# Altium schematic symbol library kmilo17pet-NSC_Switcher.SchLib: 2226 symbols (part 8 of 59)
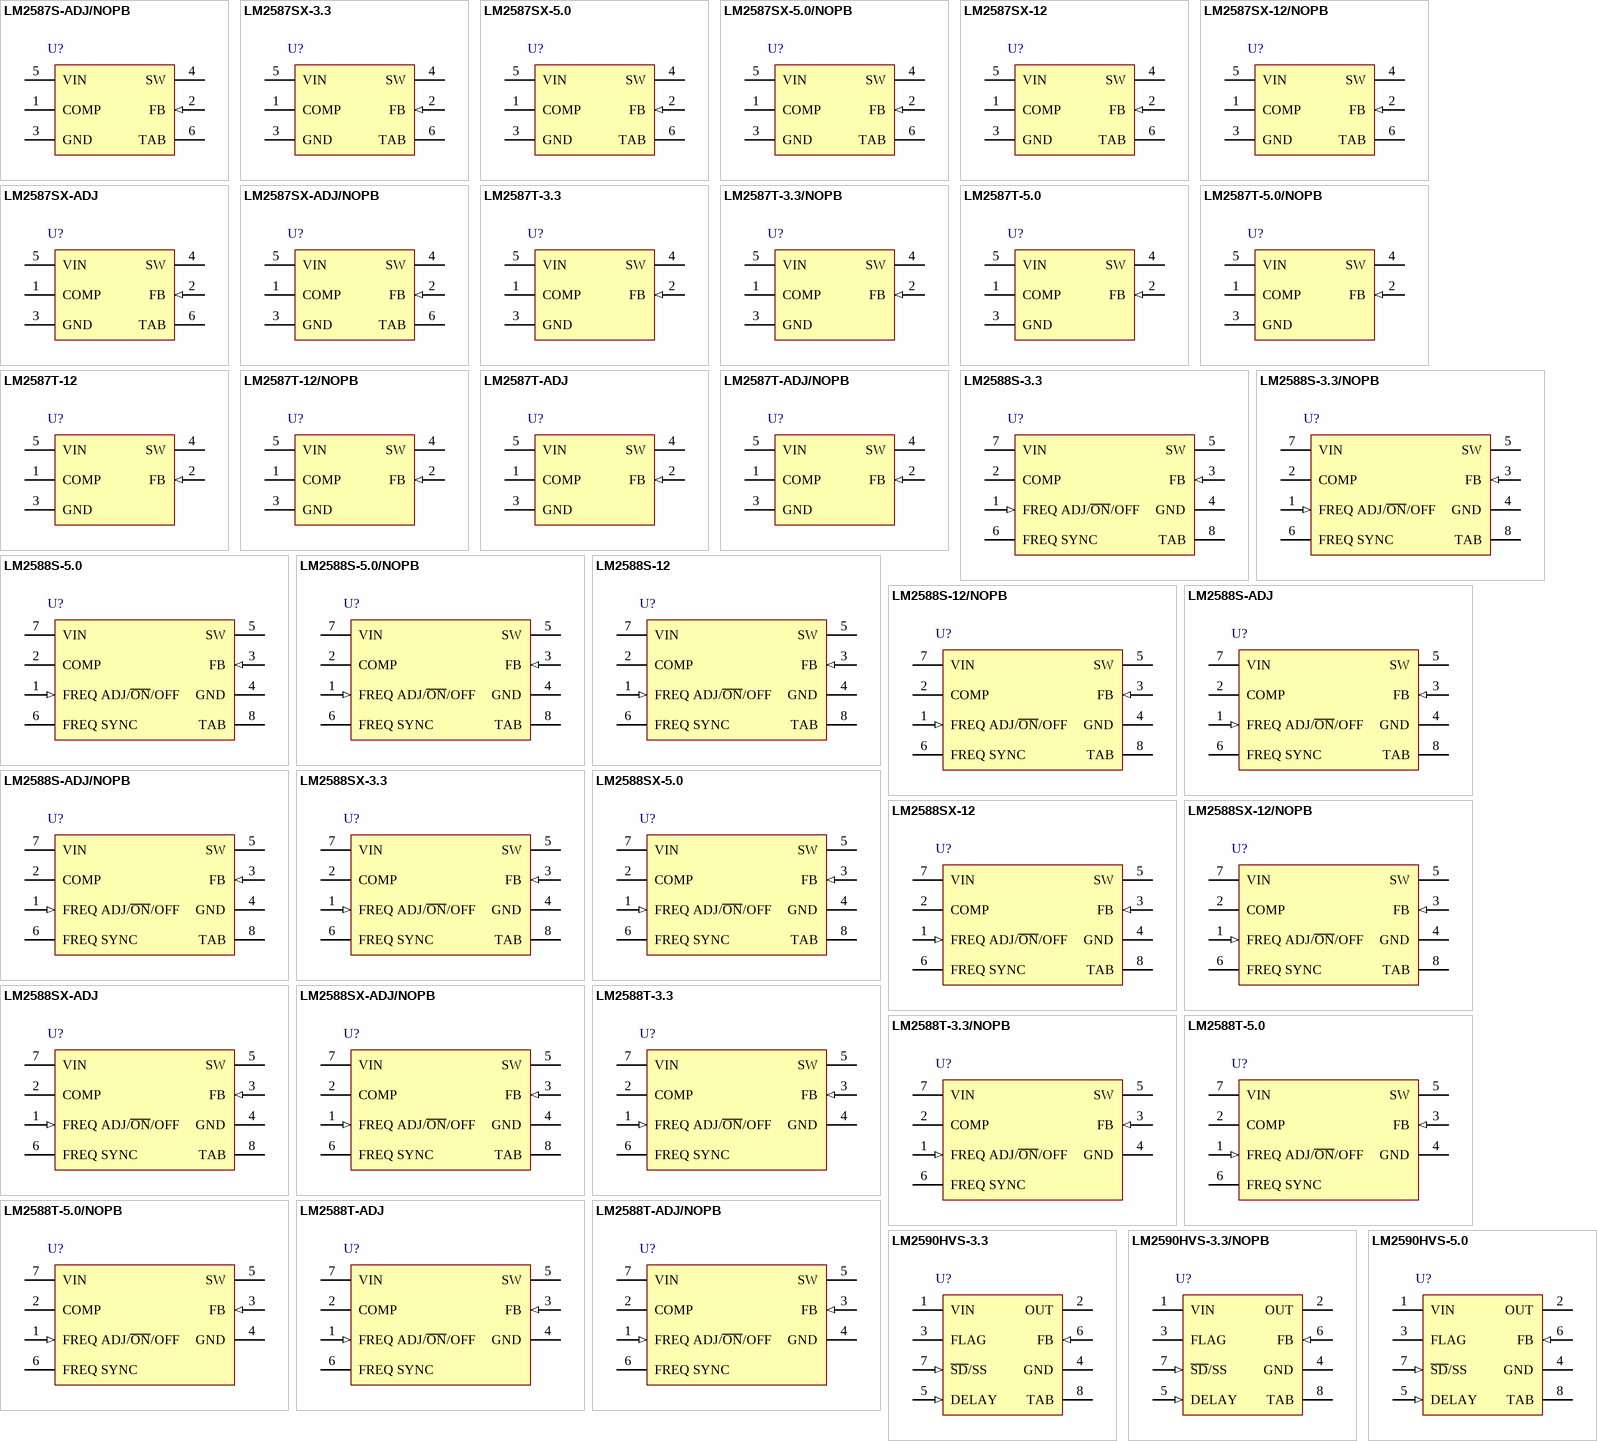
[diagram p76: symbols LM2587S-ADJ/NOPB to LM2590HVS-5.0]

## LM2587SX-12
designator U?
5A Flyback Regulator, 5-pin TO-263; PartNumber: LM2587SX-12; Manufacturer: National Semiconductor; PackageTopMarking: NSUZXYTTE#*LM2587S*-12 P+; PowerWise: N; CompType: Switcher; High-Reliability: Y; DatasheetVersion: Feb-2010; PackageVersion: revD, Apr-2005; PackageReference: TS5B; PackageDescription: TO-263, Molded, .400 x .390 x .180in, 5 Lead, .067in Pitch, Surface Mount; RoHS: N; PinCount: 5; Code_JEDEC: MO-169-AB; ComponentLink1Description: Manufacturer URL; ComponentLink1URL: http://www.national.com/; ComponentLink2Description: LM2587 Datasheet; ComponentLink2URL: http://www.national.com/ds/LM/LM2587.pdf; ComponentLink3Description: LM2587 Web Page; ComponentLink3URL: http://www.national.com/pf/LM/LM2587.html; ComponentLink4Description: TS5B Package Page; ComponentLink4URL: http://www.national.com/packaging/folders/ts5b.html
footprint TS5B_N (D2-PAK, 6-Leads, Body 8.6x10.2mm, Pitch 1.7mm, Lead Span 14.1mm, IPC Medium Density)
footprint TS5B_L (D2-PAK, 6-Leads, Body 8.6x10.2mm, Pitch 1.7mm, Lead Span 14.1mm, IPC High Density)
footprint TS5B_M (D2-PAK, 6-Leads, Body 8.6x10.2mm, Pitch 1.7mm, Lead Span 14.1mm, IPC Low Density)
pins: 1 COMP, 2 FB (in), 3 GND (power), 4 SW (power), 5 VIN (power), 6 TAB

## LM2587SX-12/NOPB
designator U?
5A Flyback Regulator, 5-pin TO-263, Pb-Free; PartNumber: LM2587SX-12/NOPB; Manufacturer: National Semiconductor; PackageTopMarking: NSUZXYTTE#*LM2587S*-12 P+; PowerWise: N; CompType: Switcher; High-Reliability: Y; DatasheetVersion: Feb-2010; PackageVersion: revD, Apr-2005; PackageReference: TS5B; PackageDescription: TO-263, Molded, .400 x .390 x .180in, 5 Lead, .067in Pitch, Surface Mount; RoHS: Y; PinCount: 5; Code_JEDEC: MO-169-AB; ComponentLink1Description: Manufacturer URL; ComponentLink1URL: http://www.national.com/; ComponentLink2Description: LM2587 Datasheet; ComponentLink2URL: http://www.national.com/ds/LM/LM2587.pdf; ComponentLink3Description: LM2587 Web Page; ComponentLink3URL: http://www.national.com/pf/LM/LM2587.html; ComponentLink4Description: TS5B Package Page; ComponentLink4URL: http://www.national.com/packaging/folders/ts5b.html
footprint TS5B_N (D2-PAK, 6-Leads, Body 8.6x10.2mm, Pitch 1.7mm, Lead Span 14.1mm, IPC Medium Density)
footprint TS5B_L (D2-PAK, 6-Leads, Body 8.6x10.2mm, Pitch 1.7mm, Lead Span 14.1mm, IPC High Density)
footprint TS5B_M (D2-PAK, 6-Leads, Body 8.6x10.2mm, Pitch 1.7mm, Lead Span 14.1mm, IPC Low Density)
pins: 1 COMP, 2 FB (in), 3 GND (power), 4 SW (power), 5 VIN (power), 6 TAB

## LM2587SX-ADJ
designator U?
5A Flyback Regulator, 5-pin TO-263; PartNumber: LM2587SX-ADJ; Manufacturer: National Semiconductor; PackageTopMarking: NSUZXYTTE#*LM2587S*-ADJ P+; PowerWise: N; CompType: Switcher; High-Reliability: Y; DatasheetVersion: Feb-2010; PackageVersion: revD, Apr-2005; PackageReference: TS5B; PackageDescription: TO-263, Molded, .400 x .390 x .180in, 5 Lead, .067in Pitch, Surface Mount; RoHS: N; PinCount: 5; Code_JEDEC: MO-169-AB; ComponentLink1Description: Manufacturer URL; ComponentLink1URL: http://www.national.com/; ComponentLink2Description: LM2587 Datasheet; ComponentLink2URL: http://www.national.com/ds/LM/LM2587.pdf; ComponentLink3Description: LM2587 Web Page; ComponentLink3URL: http://www.national.com/pf/LM/LM2587.html; ComponentLink4Description: TS5B Package Page; ComponentLink4URL: http://www.national.com/packaging/folders/ts5b.html
footprint TS5B_N (D2-PAK, 6-Leads, Body 8.6x10.2mm, Pitch 1.7mm, Lead Span 14.1mm, IPC Medium Density)
footprint TS5B_L (D2-PAK, 6-Leads, Body 8.6x10.2mm, Pitch 1.7mm, Lead Span 14.1mm, IPC High Density)
footprint TS5B_M (D2-PAK, 6-Leads, Body 8.6x10.2mm, Pitch 1.7mm, Lead Span 14.1mm, IPC Low Density)
pins: 1 COMP, 2 FB (in), 3 GND (power), 4 SW (power), 5 VIN (power), 6 TAB

## LM2587SX-ADJ/NOPB
designator U?
5A Flyback Regulator, 5-pin TO-263, Pb-Free; PartNumber: LM2587SX-ADJ/NOPB; Manufacturer: National Semiconductor; PackageTopMarking: NSUZXYTTE#*LM2587S*-ADJ P+; PowerWise: N; CompType: Switcher; High-Reliability: Y; DatasheetVersion: Feb-2010; PackageVersion: revD, Apr-2005; PackageReference: TS5B; PackageDescription: TO-263, Molded, .400 x .390 x .180in, 5 Lead, .067in Pitch, Surface Mount; RoHS: Y; PinCount: 5; Code_JEDEC: MO-169-AB; ComponentLink1Description: Manufacturer URL; ComponentLink1URL: http://www.national.com/; ComponentLink2Description: LM2587 Datasheet; ComponentLink2URL: http://www.national.com/ds/LM/LM2587.pdf; ComponentLink3Description: LM2587 Web Page; ComponentLink3URL: http://www.national.com/pf/LM/LM2587.html; ComponentLink4Description: TS5B Package Page; ComponentLink4URL: http://www.national.com/packaging/folders/ts5b.html
footprint TS5B_N (D2-PAK, 6-Leads, Body 8.6x10.2mm, Pitch 1.7mm, Lead Span 14.1mm, IPC Medium Density)
footprint TS5B_L (D2-PAK, 6-Leads, Body 8.6x10.2mm, Pitch 1.7mm, Lead Span 14.1mm, IPC High Density)
footprint TS5B_M (D2-PAK, 6-Leads, Body 8.6x10.2mm, Pitch 1.7mm, Lead Span 14.1mm, IPC Low Density)
pins: 1 COMP, 2 FB (in), 3 GND (power), 4 SW (power), 5 VIN (power), 6 TAB

## LM2587T-3.3
designator U?
SIMPLE SWITCHER® 5A Flyback Regulator, 5-pin TO-220; PartNumber: LM2587T-3.3; Manufacturer: National Semiconductor; PackageTopMarking: NSUZXYTTE#*LM2587T*-3.3 P+; PowerWise: N; High-Reliability: Y; DatasheetVersion: Feb-2010; PackageVersion: revA, Oct-1989; PackageReference: T05D; PackageDescription: TO-220, Molded, Stagger Bend, 5 Lead; RoHS: N; PinCount: 5; CompType: Switcher; ComponentLink1Description: Manufacturer URL; ComponentLink1URL: http://www.national.com/; ComponentLink2Description: LM2587 Datasheet; ComponentLink2URL: http://www.national.com/ds/LM/LM2587.pdf; ComponentLink3Description: LM2587 Web Page; ComponentLink3URL: http://www.national.com/pf/LM/LM2587.html; ComponentLink4Description: T05D Package Page; ComponentLink4URL: http://www.national.com/packaging/folders/t05d.html
footprint T05D (TO, Thru-Hole, Vertical, Heatsink Mounted; 5 Bent Staggered Leads; Body 10.3x8.6x4.6mm, Pitch 1.7 mm)
pins: 1 COMP, 2 FB (in), 3 GND (power), 4 SW (power), 5 VIN (power)

## LM2587T-3.3/NOPB
designator U?
5A Flyback Regulator, 5-pin TO-220, Pb-Free; PartNumber: LM2587T-3.3/NOPB; Manufacturer: National Semiconductor; PackageTopMarking: NSUZXYTTE#*LM2587T*-3.3 P+; PowerWise: N; CompType: Switcher; High-Reliability: Y; DatasheetVersion: Feb-2010; PackageVersion: revA, Oct-1989; PackageReference: T05D; PackageDescription: TO-220, Molded, Stagger Bend, 5 Lead; RoHS: Y; PinCount: 5; ComponentLink1Description: Manufacturer URL; ComponentLink1URL: http://www.national.com/; ComponentLink2Description: LM2587 Datasheet; ComponentLink2URL: http://www.national.com/ds/LM/LM2587.pdf; ComponentLink3Description: LM2587 Web Page; ComponentLink3URL: http://www.national.com/pf/LM/LM2587.html; ComponentLink4Description: T05D Package Page; ComponentLink4URL: http://www.national.com/packaging/folders/t05d.html
footprint T05D (TO, Thru-Hole, Vertical, Heatsink Mounted; 5 Bent Staggered Leads; Body 10.3x8.6x4.6mm, Pitch 1.7 mm)
pins: 1 COMP, 2 FB (in), 3 GND (power), 4 SW (power), 5 VIN (power)

## LM2587T-5.0
designator U?
SIMPLE SWITCHER® 5A Flyback Regulator, 5-pin TO-220; PartNumber: LM2587T-5.0; Manufacturer: National Semiconductor; PackageTopMarking: NSUZXYTTE#*LM2587T*-5.0 P+; PowerWise: N; High-Reliability: Y; DatasheetVersion: Feb-2010; PackageVersion: revA, Oct-1989; PackageReference: T05D; PackageDescription: TO-220, Molded, Stagger Bend, 5 Lead; RoHS: N; PinCount: 5; CompType: Switcher; ComponentLink1Description: Manufacturer URL; ComponentLink1URL: http://www.national.com/; ComponentLink2Description: LM2587 Datasheet; ComponentLink2URL: http://www.national.com/ds/LM/LM2587.pdf; ComponentLink3Description: LM2587 Web Page; ComponentLink3URL: http://www.national.com/pf/LM/LM2587.html; ComponentLink4Description: T05D Package Page; ComponentLink4URL: http://www.national.com/packaging/folders/t05d.html
footprint T05D (TO, Thru-Hole, Vertical, Heatsink Mounted; 5 Bent Staggered Leads; Body 10.3x8.6x4.6mm, Pitch 1.7 mm)
pins: 1 COMP, 2 FB (in), 3 GND (power), 4 SW (power), 5 VIN (power)

## LM2587T-5.0/NOPB
designator U?
5A Flyback Regulator, 5-pin TO-220, Pb-Free; PartNumber: LM2587T-5.0/NOPB; Manufacturer: National Semiconductor; PackageTopMarking: NSUZXYTTE#*LM2587T*-5.0 P+; PowerWise: N; CompType: Switcher; High-Reliability: Y; DatasheetVersion: Feb-2010; PackageVersion: revA, Oct-1989; PackageReference: T05D; PackageDescription: TO-220, Molded, Stagger Bend, 5 Lead; RoHS: Y; PinCount: 5; ComponentLink1Description: Manufacturer URL; ComponentLink1URL: http://www.national.com/; ComponentLink2Description: LM2587 Datasheet; ComponentLink2URL: http://www.national.com/ds/LM/LM2587.pdf; ComponentLink3Description: LM2587 Web Page; ComponentLink3URL: http://www.national.com/pf/LM/LM2587.html; ComponentLink4Description: T05D Package Page; ComponentLink4URL: http://www.national.com/packaging/folders/t05d.html
footprint T05D (TO, Thru-Hole, Vertical, Heatsink Mounted; 5 Bent Staggered Leads; Body 10.3x8.6x4.6mm, Pitch 1.7 mm)
pins: 1 COMP, 2 FB (in), 3 GND (power), 4 SW (power), 5 VIN (power)

## LM2587T-12
designator U?
SIMPLE SWITCHER® 5A Flyback Regulator, 5-pin TO-220; PartNumber: LM2587T-12; Manufacturer: National Semiconductor; PackageTopMarking: NSUZXYTTE#*LM2587T*-12 P+; PowerWise: N; High-Reliability: Y; DatasheetVersion: Feb-2010; PackageVersion: revA, Oct-1989; PackageReference: T05D; PackageDescription: TO-220, Molded, Stagger Bend, 5 Lead; RoHS: N; PinCount: 5; CompType: Switcher; ComponentLink1Description: Manufacturer URL; ComponentLink1URL: http://www.national.com/; ComponentLink2Description: LM2587 Datasheet; ComponentLink2URL: http://www.national.com/ds/LM/LM2587.pdf; ComponentLink3Description: LM2587 Web Page; ComponentLink3URL: http://www.national.com/pf/LM/LM2587.html; ComponentLink4Description: T05D Package Page; ComponentLink4URL: http://www.national.com/packaging/folders/t05d.html
footprint T05D (TO, Thru-Hole, Vertical, Heatsink Mounted; 5 Bent Staggered Leads; Body 10.3x8.6x4.6mm, Pitch 1.7 mm)
pins: 1 COMP, 2 FB (in), 3 GND (power), 4 SW (power), 5 VIN (power)

## LM2587T-12/NOPB
designator U?
5A Flyback Regulator, 5-pin TO-220, Pb-Free; PartNumber: LM2587T-12/NOPB; Manufacturer: National Semiconductor; PackageTopMarking: NSUZXYTTE#*LM2587T*-12 P+; PowerWise: N; CompType: Switcher; High-Reliability: Y; DatasheetVersion: Feb-2010; PackageVersion: revA, Oct-1989; PackageReference: T05D; PackageDescription: TO-220, Molded, Stagger Bend, 5 Lead; RoHS: Y; PinCount: 5; ComponentLink1Description: Manufacturer URL; ComponentLink1URL: http://www.national.com/; ComponentLink2Description: LM2587 Datasheet; ComponentLink2URL: http://www.national.com/ds/LM/LM2587.pdf; ComponentLink3Description: LM2587 Web Page; ComponentLink3URL: http://www.national.com/pf/LM/LM2587.html; ComponentLink4Description: T05D Package Page; ComponentLink4URL: http://www.national.com/packaging/folders/t05d.html
footprint T05D (TO, Thru-Hole, Vertical, Heatsink Mounted; 5 Bent Staggered Leads; Body 10.3x8.6x4.6mm, Pitch 1.7 mm)
pins: 1 COMP, 2 FB (in), 3 GND (power), 4 SW (power), 5 VIN (power)

## LM2587T-ADJ
designator U?
SIMPLE SWITCHER® 5A Flyback Regulator, 5-pin TO-220; PartNumber: LM2587T-ADJ; Manufacturer: National Semiconductor; PackageTopMarking: NSUZXYTTE#*LM2587T*-ADJ P+; PowerWise: N; High-Reliability: Y; DatasheetVersion: Feb-2010; PackageVersion: revA, Oct-1989; PackageReference: T05D; PackageDescription: TO-220, Molded, Stagger Bend, 5 Lead; RoHS: N; PinCount: 5; CompType: Switcher; ComponentLink1Description: Manufacturer URL; ComponentLink1URL: http://www.national.com/; ComponentLink2Description: LM2587 Datasheet; ComponentLink2URL: http://www.national.com/ds/LM/LM2587.pdf; ComponentLink3Description: LM2587 Web Page; ComponentLink3URL: http://www.national.com/pf/LM/LM2587.html; ComponentLink4Description: T05D Package Page; ComponentLink4URL: http://www.national.com/packaging/folders/t05d.html
footprint T05D (TO, Thru-Hole, Vertical, Heatsink Mounted; 5 Bent Staggered Leads; Body 10.3x8.6x4.6mm, Pitch 1.7 mm)
pins: 1 COMP, 2 FB (in), 3 GND (power), 4 SW (power), 5 VIN (power)

## LM2587T-ADJ/NOPB
designator U?
5A Flyback Regulator, 5-pin TO-220, Pb-Free; PartNumber: LM2587T-ADJ/NOPB; Manufacturer: National Semiconductor; PackageTopMarking: NSUZXYTTE#*LM2587T*-ADJ P+; PowerWise: N; CompType: Switcher; High-Reliability: Y; DatasheetVersion: Feb-2010; PackageVersion: revA, Oct-1989; PackageReference: T05D; PackageDescription: TO-220, Molded, Stagger Bend, 5 Lead; RoHS: Y; PinCount: 5; ComponentLink1Description: Manufacturer URL; ComponentLink1URL: http://www.national.com/; ComponentLink2Description: LM2587 Datasheet; ComponentLink2URL: http://www.national.com/ds/LM/LM2587.pdf; ComponentLink3Description: LM2587 Web Page; ComponentLink3URL: http://www.national.com/pf/LM/LM2587.html; ComponentLink4Description: T05D Package Page; ComponentLink4URL: http://www.national.com/packaging/folders/t05d.html
footprint T05D (TO, Thru-Hole, Vertical, Heatsink Mounted; 5 Bent Staggered Leads; Body 10.3x8.6x4.6mm, Pitch 1.7 mm)
pins: 1 COMP, 2 FB (in), 3 GND (power), 4 SW (power), 5 VIN (power)

## LM2588S-3.3
designator U?
SIMPLE SWITCHER® 5A Flyback Regulator with Shutdown, 7-pin TO-263; PartNumber: LM2588S-3.3; Manufacturer: National Semiconductor; PackageTopMarking: NSUZXYTTE#*LM2588S*-3.3 P+; PowerWise: N; High-Reliability: Y; DatasheetVersion: Jul-2005; PackageVersion: revE, Jul-2003; PackageReference: TS7B; PackageDescription: TO-263, Molded, .400 x .390 x .180in Body, 7 Lead, .050in Pitch, Surface Mount; RoHS: N; PinCount: 7; CompType: Switcher; Code_JEDEC: MO-169-AC; ComponentLink1Description: Manufacturer URL; ComponentLink1URL: http://www.national.com/; ComponentLink2Description: LM2588 Datasheet; ComponentLink2URL: http://www.national.com/ds/LM/LM2588.pdf; ComponentLink3Description: LM2588 Web Page; ComponentLink3URL: http://www.national.com/pf/LM/LM2588.html; ComponentLink4Description: TS7B Package Page; ComponentLink4URL: http://www.national.com/packaging/folders/ts7b.html
footprint TS7B_N (D2-PAK, 8-Leads, Body 8.6x10.2mm, Pitch 1.27mm, Lead Span 14.1mm, IPC Medium Density)
footprint TS7B_L (D2-PAK, 8-Leads, Body 8.6x10.2mm, Pitch 1.27mm, Lead Span 14.1mm, IPC High Density)
footprint TS7B_M (D2-PAK, 8-Leads, Body 8.6x10.2mm, Pitch 1.27mm, Lead Span 14.1mm, IPC Low Density)
pins: 1 FREQ ADJ/~{ON}/OFF (in), 2 COMP, 3 FB (in), 4 GND (power), 5 SW (power), 6 FREQ SYNC, 7 VIN (power), 8 TAB

## LM2588S-3.3/NOPB
designator U?
SIMPLE SWITCHER® 5A Flyback Regulator with Shutdown, 7-pin TO-263, Pb-Free; PartNumber: LM2588S-3.3/NOPB; Manufacturer: National Semiconductor; PackageTopMarking: NSUZXYTTE#*LM2588S*-3.3 P+; PowerWise: N; High-Reliability: Y; DatasheetVersion: Jul-2005; PackageVersion: revE, Jul-2003; PackageReference: TS7B; PackageDescription: TO-263, Molded, .400 x .390 x .180in Body, 7 Lead, .050in Pitch, Surface Mount; RoHS: Y; PinCount: 7; CompType: Switcher; Code_JEDEC: MO-169-AC; ComponentLink1Description: Manufacturer URL; ComponentLink1URL: http://www.national.com/; ComponentLink2Description: LM2588 Datasheet; ComponentLink2URL: http://www.national.com/ds/LM/LM2588.pdf; ComponentLink3Description: LM2588 Web Page; ComponentLink3URL: http://www.national.com/pf/LM/LM2588.html; ComponentLink4Description: TS7B Package Page; ComponentLink4URL: http://www.national.com/packaging/folders/ts7b.html
footprint TS7B_N (D2-PAK, 8-Leads, Body 8.6x10.2mm, Pitch 1.27mm, Lead Span 14.1mm, IPC Medium Density)
footprint TS7B_L (D2-PAK, 8-Leads, Body 8.6x10.2mm, Pitch 1.27mm, Lead Span 14.1mm, IPC High Density)
footprint TS7B_M (D2-PAK, 8-Leads, Body 8.6x10.2mm, Pitch 1.27mm, Lead Span 14.1mm, IPC Low Density)
pins: 1 FREQ ADJ/~{ON}/OFF (in), 2 COMP, 3 FB (in), 4 GND (power), 5 SW (power), 6 FREQ SYNC, 7 VIN (power), 8 TAB

## LM2588S-5.0
designator U?
SIMPLE SWITCHER® 5A Flyback Regulator with Shutdown, 7-pin TO-263; PartNumber: LM2588S-5.0; Manufacturer: National Semiconductor; PackageTopMarking: NSUZXYTTE#*LM2588S*-5.0 P+; PowerWise: N; High-Reliability: Y; DatasheetVersion: Jul-2005; PackageVersion: revE, Jul-2003; PackageReference: TS7B; PackageDescription: TO-263, Molded, .400 x .390 x .180in Body, 7 Lead, .050in Pitch, Surface Mount; RoHS: N; PinCount: 7; CompType: Switcher; Code_JEDEC: MO-169-AC; ComponentLink1Description: Manufacturer URL; ComponentLink1URL: http://www.national.com/; ComponentLink2Description: LM2588 Datasheet; ComponentLink2URL: http://www.national.com/ds/LM/LM2588.pdf; ComponentLink3Description: LM2588 Web Page; ComponentLink3URL: http://www.national.com/pf/LM/LM2588.html; ComponentLink4Description: TS7B Package Page; ComponentLink4URL: http://www.national.com/packaging/folders/ts7b.html
footprint TS7B_N (D2-PAK, 8-Leads, Body 8.6x10.2mm, Pitch 1.27mm, Lead Span 14.1mm, IPC Medium Density)
footprint TS7B_L (D2-PAK, 8-Leads, Body 8.6x10.2mm, Pitch 1.27mm, Lead Span 14.1mm, IPC High Density)
footprint TS7B_M (D2-PAK, 8-Leads, Body 8.6x10.2mm, Pitch 1.27mm, Lead Span 14.1mm, IPC Low Density)
pins: 1 FREQ ADJ/~{ON}/OFF (in), 2 COMP, 3 FB (in), 4 GND (power), 5 SW (power), 6 FREQ SYNC, 7 VIN (power), 8 TAB

## LM2588S-5.0/NOPB
designator U?
SIMPLE SWITCHER® 5A Flyback Regulator with Shutdown, 7-pin TO-263, Pb-Free; PartNumber: LM2588S-5.0/NOPB; Manufacturer: National Semiconductor; PackageTopMarking: NSUZXYTTE#*LM2588S*-5.0 P+; PowerWise: N; High-Reliability: Y; DatasheetVersion: Jul-2005; PackageVersion: revE, Jul-2003; PackageReference: TS7B; PackageDescription: TO-263, Molded, .400 x .390 x .180in Body, 7 Lead, .050in Pitch, Surface Mount; RoHS: Y; PinCount: 7; CompType: Switcher; Code_JEDEC: MO-169-AC; ComponentLink1Description: Manufacturer URL; ComponentLink1URL: http://www.national.com/; ComponentLink2Description: LM2588 Datasheet; ComponentLink2URL: http://www.national.com/ds/LM/LM2588.pdf; ComponentLink3Description: LM2588 Web Page; ComponentLink3URL: http://www.national.com/pf/LM/LM2588.html; ComponentLink4Description: TS7B Package Page; ComponentLink4URL: http://www.national.com/packaging/folders/ts7b.html
footprint TS7B_N (D2-PAK, 8-Leads, Body 8.6x10.2mm, Pitch 1.27mm, Lead Span 14.1mm, IPC Medium Density)
footprint TS7B_L (D2-PAK, 8-Leads, Body 8.6x10.2mm, Pitch 1.27mm, Lead Span 14.1mm, IPC High Density)
footprint TS7B_M (D2-PAK, 8-Leads, Body 8.6x10.2mm, Pitch 1.27mm, Lead Span 14.1mm, IPC Low Density)
pins: 1 FREQ ADJ/~{ON}/OFF (in), 2 COMP, 3 FB (in), 4 GND (power), 5 SW (power), 6 FREQ SYNC, 7 VIN (power), 8 TAB

## LM2588S-12
designator U?
SIMPLE SWITCHER® 5A Flyback Regulator with Shutdown, 7-pin TO-263; PartNumber: LM2588S-12; Manufacturer: National Semiconductor; PackageTopMarking: NSUZXYTTE#*LM2588S*-12 P+; PowerWise: N; High-Reliability: Y; DatasheetVersion: Jul-2005; PackageVersion: revE, Jul-2003; PackageReference: TS7B; PackageDescription: TO-263, Molded, .400 x .390 x .180in Body, 7 Lead, .050in Pitch, Surface Mount; RoHS: N; PinCount: 7; CompType: Switcher; Code_JEDEC: MO-169-AC; ComponentLink1Description: Manufacturer URL; ComponentLink1URL: http://www.national.com/; ComponentLink2Description: LM2588 Datasheet; ComponentLink2URL: http://www.national.com/ds/LM/LM2588.pdf; ComponentLink3Description: LM2588 Web Page; ComponentLink3URL: http://www.national.com/pf/LM/LM2588.html; ComponentLink4Description: TS7B Package Page; ComponentLink4URL: http://www.national.com/packaging/folders/ts7b.html
footprint TS7B_N (D2-PAK, 8-Leads, Body 8.6x10.2mm, Pitch 1.27mm, Lead Span 14.1mm, IPC Medium Density)
footprint TS7B_L (D2-PAK, 8-Leads, Body 8.6x10.2mm, Pitch 1.27mm, Lead Span 14.1mm, IPC High Density)
footprint TS7B_M (D2-PAK, 8-Leads, Body 8.6x10.2mm, Pitch 1.27mm, Lead Span 14.1mm, IPC Low Density)
pins: 1 FREQ ADJ/~{ON}/OFF (in), 2 COMP, 3 FB (in), 4 GND (power), 5 SW (power), 6 FREQ SYNC, 7 VIN (power), 8 TAB

## LM2588S-12/NOPB
designator U?
SIMPLE SWITCHER® 5A Flyback Regulator with Shutdown, 7-pin TO-263, Pb-Free; PartNumber: LM2588S-12/NOPB; Manufacturer: National Semiconductor; PackageTopMarking: NSUZXYTTE#*LM2588S*-12 P+; PowerWise: N; High-Reliability: Y; DatasheetVersion: Jul-2005; PackageVersion: revE, Jul-2003; PackageReference: TS7B; PackageDescription: TO-263, Molded, .400 x .390 x .180in Body, 7 Lead, .050in Pitch, Surface Mount; RoHS: Y; PinCount: 7; CompType: Switcher; Code_JEDEC: MO-169-AC; ComponentLink1Description: Manufacturer URL; ComponentLink1URL: http://www.national.com/; ComponentLink2Description: LM2588 Datasheet; ComponentLink2URL: http://www.national.com/ds/LM/LM2588.pdf; ComponentLink3Description: LM2588 Web Page; ComponentLink3URL: http://www.national.com/pf/LM/LM2588.html; ComponentLink4Description: TS7B Package Page; ComponentLink4URL: http://www.national.com/packaging/folders/ts7b.html
footprint TS7B_N (D2-PAK, 8-Leads, Body 8.6x10.2mm, Pitch 1.27mm, Lead Span 14.1mm, IPC Medium Density)
footprint TS7B_L (D2-PAK, 8-Leads, Body 8.6x10.2mm, Pitch 1.27mm, Lead Span 14.1mm, IPC High Density)
footprint TS7B_M (D2-PAK, 8-Leads, Body 8.6x10.2mm, Pitch 1.27mm, Lead Span 14.1mm, IPC Low Density)
pins: 1 FREQ ADJ/~{ON}/OFF (in), 2 COMP, 3 FB (in), 4 GND (power), 5 SW (power), 6 FREQ SYNC, 7 VIN (power), 8 TAB

## LM2588S-ADJ
designator U?
SIMPLE SWITCHER® 5A Flyback Regulator with Shutdown, 7-pin TO-263; PartNumber: LM2588S-ADJ; Manufacturer: National Semiconductor; PackageTopMarking: NSUZXYTTE#*LM2588S*-ADJ P+; PowerWise: N; High-Reliability: Y; DatasheetVersion: Jul-2005; PackageVersion: revE, Jul-2003; PackageReference: TS7B; PackageDescription: TO-263, Molded, .400 x .390 x .180in Body, 7 Lead, .050in Pitch, Surface Mount; RoHS: N; PinCount: 7; CompType: Switcher; Code_JEDEC: MO-169-AC; ComponentLink1Description: Manufacturer URL; ComponentLink1URL: http://www.national.com/; ComponentLink2Description: LM2588 Datasheet; ComponentLink2URL: http://www.national.com/ds/LM/LM2588.pdf; ComponentLink3Description: LM2588 Web Page; ComponentLink3URL: http://www.national.com/pf/LM/LM2588.html; ComponentLink4Description: TS7B Package Page; ComponentLink4URL: http://www.national.com/packaging/folders/ts7b.html
footprint TS7B_N (D2-PAK, 8-Leads, Body 8.6x10.2mm, Pitch 1.27mm, Lead Span 14.1mm, IPC Medium Density)
footprint TS7B_L (D2-PAK, 8-Leads, Body 8.6x10.2mm, Pitch 1.27mm, Lead Span 14.1mm, IPC High Density)
footprint TS7B_M (D2-PAK, 8-Leads, Body 8.6x10.2mm, Pitch 1.27mm, Lead Span 14.1mm, IPC Low Density)
pins: 1 FREQ ADJ/~{ON}/OFF (in), 2 COMP, 3 FB (in), 4 GND (power), 5 SW (power), 6 FREQ SYNC, 7 VIN (power), 8 TAB

## LM2588S-ADJ/NOPB
designator U?
SIMPLE SWITCHER® 5A Flyback Regulator with Shutdown, 7-pin TO-263, Pb-Free; PartNumber: LM2588S-ADJ/NOPB; Manufacturer: National Semiconductor; PackageTopMarking: NSUZXYTTE#*LM2588S*-ADJ P+; PowerWise: N; High-Reliability: Y; DatasheetVersion: Jul-2005; PackageVersion: revE, Jul-2003; PackageReference: TS7B; PackageDescription: TO-263, Molded, .400 x .390 x .180in Body, 7 Lead, .050in Pitch, Surface Mount; RoHS: Y; PinCount: 7; CompType: Switcher; Code_JEDEC: MO-169-AC; ComponentLink1Description: Manufacturer URL; ComponentLink1URL: http://www.national.com/; ComponentLink2Description: LM2588 Datasheet; ComponentLink2URL: http://www.national.com/ds/LM/LM2588.pdf; ComponentLink3Description: LM2588 Web Page; ComponentLink3URL: http://www.national.com/pf/LM/LM2588.html; ComponentLink4Description: TS7B Package Page; ComponentLink4URL: http://www.national.com/packaging/folders/ts7b.html
footprint TS7B_N (D2-PAK, 8-Leads, Body 8.6x10.2mm, Pitch 1.27mm, Lead Span 14.1mm, IPC Medium Density)
footprint TS7B_L (D2-PAK, 8-Leads, Body 8.6x10.2mm, Pitch 1.27mm, Lead Span 14.1mm, IPC High Density)
footprint TS7B_M (D2-PAK, 8-Leads, Body 8.6x10.2mm, Pitch 1.27mm, Lead Span 14.1mm, IPC Low Density)
pins: 1 FREQ ADJ/~{ON}/OFF (in), 2 COMP, 3 FB (in), 4 GND (power), 5 SW (power), 6 FREQ SYNC, 7 VIN (power), 8 TAB

## LM2588SX-3.3
designator U?
SIMPLE SWITCHER® 5A Flyback Regulator with Shutdown, 7-pin TO-263; PartNumber: LM2588SX-3.3; Manufacturer: National Semiconductor; PackageTopMarking: NSUZXYTTE#*LM2588S*-3.3 P+; PowerWise: N; High-Reliability: Y; DatasheetVersion: Jul-2005; PackageVersion: revE, Jul-2003; PackageReference: TS7B; PackageDescription: TO-263, Molded, .400 x .390 x .180in Body, 7 Lead, .050in Pitch, Surface Mount; RoHS: N; PinCount: 7; CompType: Switcher; Code_JEDEC: MO-169-AC; ComponentLink1Description: Manufacturer URL; ComponentLink1URL: http://www.national.com/; ComponentLink2Description: LM2588 Datasheet; ComponentLink2URL: http://www.national.com/ds/LM/LM2588.pdf; ComponentLink3Description: LM2588 Web Page; ComponentLink3URL: http://www.national.com/pf/LM/LM2588.html; ComponentLink4Description: TS7B Package Page; ComponentLink4URL: http://www.national.com/packaging/folders/ts7b.html
footprint TS7B_N (D2-PAK, 8-Leads, Body 8.6x10.2mm, Pitch 1.27mm, Lead Span 14.1mm, IPC Medium Density)
footprint TS7B_L (D2-PAK, 8-Leads, Body 8.6x10.2mm, Pitch 1.27mm, Lead Span 14.1mm, IPC High Density)
footprint TS7B_M (D2-PAK, 8-Leads, Body 8.6x10.2mm, Pitch 1.27mm, Lead Span 14.1mm, IPC Low Density)
pins: 1 FREQ ADJ/~{ON}/OFF (in), 2 COMP, 3 FB (in), 4 GND (power), 5 SW (power), 6 FREQ SYNC, 7 VIN (power), 8 TAB

## LM2588SX-5.0
designator U?
SIMPLE SWITCHER® 5A Flyback Regulator with Shutdown, 7-pin TO-263; PartNumber: LM2588SX-5.0; Manufacturer: National Semiconductor; PackageTopMarking: NSUZXYTTE#*LM2588S*-5.0 P+; PowerWise: N; High-Reliability: Y; DatasheetVersion: Jul-2005; PackageVersion: revE, Jul-2003; PackageReference: TS7B; PackageDescription: TO-263, Molded, .400 x .390 x .180in Body, 7 Lead, .050in Pitch, Surface Mount; RoHS: N; PinCount: 7; CompType: Switcher; Code_JEDEC: MO-169-AC; ComponentLink1Description: Manufacturer URL; ComponentLink1URL: http://www.national.com/; ComponentLink2Description: LM2588 Datasheet; ComponentLink2URL: http://www.national.com/ds/LM/LM2588.pdf; ComponentLink3Description: LM2588 Web Page; ComponentLink3URL: http://www.national.com/pf/LM/LM2588.html; ComponentLink4Description: TS7B Package Page; ComponentLink4URL: http://www.national.com/packaging/folders/ts7b.html
footprint TS7B_N (D2-PAK, 8-Leads, Body 8.6x10.2mm, Pitch 1.27mm, Lead Span 14.1mm, IPC Medium Density)
footprint TS7B_L (D2-PAK, 8-Leads, Body 8.6x10.2mm, Pitch 1.27mm, Lead Span 14.1mm, IPC High Density)
footprint TS7B_M (D2-PAK, 8-Leads, Body 8.6x10.2mm, Pitch 1.27mm, Lead Span 14.1mm, IPC Low Density)
pins: 1 FREQ ADJ/~{ON}/OFF (in), 2 COMP, 3 FB (in), 4 GND (power), 5 SW (power), 6 FREQ SYNC, 7 VIN (power), 8 TAB

## LM2588SX-12
designator U?
SIMPLE SWITCHER® 5A Flyback Regulator with Shutdown, 7-pin TO-263; PartNumber: LM2588SX-12; Manufacturer: National Semiconductor; PackageTopMarking: NSUZXYTTE#*LM2588S*-12 P+; PowerWise: N; High-Reliability: Y; DatasheetVersion: Jul-2005; PackageVersion: revE, Jul-2003; PackageReference: TS7B; PackageDescription: TO-263, Molded, .400 x .390 x .180in Body, 7 Lead, .050in Pitch, Surface Mount; RoHS: N; PinCount: 7; CompType: Switcher; Code_JEDEC: MO-169-AC; ComponentLink1Description: Manufacturer URL; ComponentLink1URL: http://www.national.com/; ComponentLink2Description: LM2588 Datasheet; ComponentLink2URL: http://www.national.com/ds/LM/LM2588.pdf; ComponentLink3Description: LM2588 Web Page; ComponentLink3URL: http://www.national.com/pf/LM/LM2588.html; ComponentLink4Description: TS7B Package Page; ComponentLink4URL: http://www.national.com/packaging/folders/ts7b.html
footprint TS7B_N (D2-PAK, 8-Leads, Body 8.6x10.2mm, Pitch 1.27mm, Lead Span 14.1mm, IPC Medium Density)
footprint TS7B_L (D2-PAK, 8-Leads, Body 8.6x10.2mm, Pitch 1.27mm, Lead Span 14.1mm, IPC High Density)
footprint TS7B_M (D2-PAK, 8-Leads, Body 8.6x10.2mm, Pitch 1.27mm, Lead Span 14.1mm, IPC Low Density)
pins: 1 FREQ ADJ/~{ON}/OFF (in), 2 COMP, 3 FB (in), 4 GND (power), 5 SW (power), 6 FREQ SYNC, 7 VIN (power), 8 TAB

## LM2588SX-12/NOPB
designator U?
SIMPLE SWITCHER® 5A Flyback Regulator with Shutdown, 7-pin TO-263, Pb-Free; PartNumber: LM2588SX-12/NOPB; Manufacturer: National Semiconductor; PackageTopMarking: NSUZXYTTE#*LM2588S*-12 P+; PowerWise: N; High-Reliability: Y; DatasheetVersion: Jul-2005; PackageVersion: revE, Jul-2003; PackageReference: TS7B; PackageDescription: TO-263, Molded, .400 x .390 x .180in Body, 7 Lead, .050in Pitch, Surface Mount; RoHS: Y; PinCount: 7; CompType: Switcher; Code_JEDEC: MO-169-AC; ComponentLink1Description: Manufacturer URL; ComponentLink1URL: http://www.national.com/; ComponentLink2Description: LM2588 Datasheet; ComponentLink2URL: http://www.national.com/ds/LM/LM2588.pdf; ComponentLink3Description: LM2588 Web Page; ComponentLink3URL: http://www.national.com/pf/LM/LM2588.html; ComponentLink4Description: TS7B Package Page; ComponentLink4URL: http://www.national.com/packaging/folders/ts7b.html
footprint TS7B_N (D2-PAK, 8-Leads, Body 8.6x10.2mm, Pitch 1.27mm, Lead Span 14.1mm, IPC Medium Density)
footprint TS7B_L (D2-PAK, 8-Leads, Body 8.6x10.2mm, Pitch 1.27mm, Lead Span 14.1mm, IPC High Density)
footprint TS7B_M (D2-PAK, 8-Leads, Body 8.6x10.2mm, Pitch 1.27mm, Lead Span 14.1mm, IPC Low Density)
pins: 1 FREQ ADJ/~{ON}/OFF (in), 2 COMP, 3 FB (in), 4 GND (power), 5 SW (power), 6 FREQ SYNC, 7 VIN (power), 8 TAB

## LM2588SX-ADJ
designator U?
SIMPLE SWITCHER® 5A Flyback Regulator with Shutdown, 7-pin TO-263; PartNumber: LM2588SX-ADJ; Manufacturer: National Semiconductor; PackageTopMarking: NSUZXYTTE#*LM2588S*-ADJ P+; PowerWise: N; High-Reliability: Y; DatasheetVersion: Jul-2005; PackageVersion: revE, Jul-2003; PackageReference: TS7B; PackageDescription: TO-263, Molded, .400 x .390 x .180in Body, 7 Lead, .050in Pitch, Surface Mount; RoHS: N; PinCount: 7; CompType: Switcher; Code_JEDEC: MO-169-AC; ComponentLink1Description: Manufacturer URL; ComponentLink1URL: http://www.national.com/; ComponentLink2Description: LM2588 Datasheet; ComponentLink2URL: http://www.national.com/ds/LM/LM2588.pdf; ComponentLink3Description: LM2588 Web Page; ComponentLink3URL: http://www.national.com/pf/LM/LM2588.html; ComponentLink4Description: TS7B Package Page; ComponentLink4URL: http://www.national.com/packaging/folders/ts7b.html
footprint TS7B_N (D2-PAK, 8-Leads, Body 8.6x10.2mm, Pitch 1.27mm, Lead Span 14.1mm, IPC Medium Density)
footprint TS7B_L (D2-PAK, 8-Leads, Body 8.6x10.2mm, Pitch 1.27mm, Lead Span 14.1mm, IPC High Density)
footprint TS7B_M (D2-PAK, 8-Leads, Body 8.6x10.2mm, Pitch 1.27mm, Lead Span 14.1mm, IPC Low Density)
pins: 1 FREQ ADJ/~{ON}/OFF (in), 2 COMP, 3 FB (in), 4 GND (power), 5 SW (power), 6 FREQ SYNC, 7 VIN (power), 8 TAB

## LM2588SX-ADJ/NOPB
designator U?
SIMPLE SWITCHER® 5A Flyback Regulator with Shutdown, 7-pin TO-263, Pb-Free; PartNumber: LM2588SX-ADJ/NOPB; Manufacturer: National Semiconductor; PackageTopMarking: NSUZXYTTE#*LM2588S*-ADJ P+; PowerWise: N; High-Reliability: Y; DatasheetVersion: Jul-2005; PackageVersion: revE, Jul-2003; PackageReference: TS7B; PackageDescription: TO-263, Molded, .400 x .390 x .180in Body, 7 Lead, .050in Pitch, Surface Mount; RoHS: Y; PinCount: 7; CompType: Switcher; Code_JEDEC: MO-169-AC; ComponentLink1Description: Manufacturer URL; ComponentLink1URL: http://www.national.com/; ComponentLink2Description: LM2588 Datasheet; ComponentLink2URL: http://www.national.com/ds/LM/LM2588.pdf; ComponentLink3Description: LM2588 Web Page; ComponentLink3URL: http://www.national.com/pf/LM/LM2588.html; ComponentLink4Description: TS7B Package Page; ComponentLink4URL: http://www.national.com/packaging/folders/ts7b.html
footprint TS7B_N (D2-PAK, 8-Leads, Body 8.6x10.2mm, Pitch 1.27mm, Lead Span 14.1mm, IPC Medium Density)
footprint TS7B_L (D2-PAK, 8-Leads, Body 8.6x10.2mm, Pitch 1.27mm, Lead Span 14.1mm, IPC High Density)
footprint TS7B_M (D2-PAK, 8-Leads, Body 8.6x10.2mm, Pitch 1.27mm, Lead Span 14.1mm, IPC Low Density)
pins: 1 FREQ ADJ/~{ON}/OFF (in), 2 COMP, 3 FB (in), 4 GND (power), 5 SW (power), 6 FREQ SYNC, 7 VIN (power), 8 TAB

## LM2588T-3.3
designator U?
SIMPLE SWITCHER® 5A Flyback Regulator with Shutdown, 7-pin TO-220; PartNumber: LM2588T-3.3; Manufacturer: National Semiconductor; PackageTopMarking: NSUZXYTTE#*LM2588T*-3.3 P+; PowerWise: N; High-Reliability: Y; DatasheetVersion: Jul-2005; PackageVersion: revC, Apr-1999; PackageReference: TA07B; PackageDescription: TO-220, Molded, .400 x .590 x .180in Body, 7 Lead, .050in Pitch, Staggered; RoHS: N; PinCount: 7; CompType: Switcher; Code_JEDEC: TO-220-AB; ComponentLink1Description: Manufacturer URL; ComponentLink1URL: http://www.national.com/; ComponentLink2Description: LM2588 Datasheet; ComponentLink2URL: http://www.national.com/ds/LM/LM2588.pdf; ComponentLink3Description: LM2588 Web Page; ComponentLink3URL: http://www.national.com/pf/LM/LM2588.html; ComponentLink4Description: TA07B Package Page; ComponentLink4URL: http://www.national.com/packaging/folders/ta07b.html
footprint TA07B (TO, Thru-Hole, Vertical, Heatsink Mounted; 7 Bent Staggered Leads; Body 10.2x8.7x4.6mm, Pitch 1.27 mm)
pins: 1 FREQ ADJ/~{ON}/OFF (in), 2 COMP, 3 FB (in), 4 GND (power), 5 SW (power), 6 FREQ SYNC, 7 VIN (power)

## LM2588T-3.3/NOPB
designator U?
SIMPLE SWITCHER® 5A Flyback Regulator with Shutdown, 7-pin TO-220, Pb-Free; PartNumber: LM2588T-3.3/NOPB; Manufacturer: National Semiconductor; PackageTopMarking: NSUZXYTTE#*LM2588T*-3.3 P+; PowerWise: N; High-Reliability: Y; DatasheetVersion: Jul-2005; PackageVersion: revC, Apr-1999; PackageReference: TA07B; PackageDescription: TO-220, Molded, .400 x .590 x .180in Body, 7 Lead, .050in Pitch, Staggered; RoHS: Y; PinCount: 7; CompType: Switcher; Code_JEDEC: TO-220-AB; ComponentLink1Description: Manufacturer URL; ComponentLink1URL: http://www.national.com/; ComponentLink2Description: LM2588 Datasheet; ComponentLink2URL: http://www.national.com/ds/LM/LM2588.pdf; ComponentLink3Description: LM2588 Web Page; ComponentLink3URL: http://www.national.com/pf/LM/LM2588.html; ComponentLink4Description: TA07B Package Page; ComponentLink4URL: http://www.national.com/packaging/folders/ta07b.html
footprint TA07B (TO, Thru-Hole, Vertical, Heatsink Mounted; 7 Bent Staggered Leads; Body 10.2x8.7x4.6mm, Pitch 1.27 mm)
pins: 1 FREQ ADJ/~{ON}/OFF (in), 2 COMP, 3 FB (in), 4 GND (power), 5 SW (power), 6 FREQ SYNC, 7 VIN (power)

## LM2588T-5.0
designator U?
SIMPLE SWITCHER® 5A Flyback Regulator with Shutdown, 7-pin TO-220; PartNumber: LM2588T-5.0; Manufacturer: National Semiconductor; PackageTopMarking: NSUZXYTTE#*LM2588T*-5.0 P+; PowerWise: N; High-Reliability: Y; DatasheetVersion: Jul-2005; PackageVersion: revC, Apr-1999; PackageReference: TA07B; PackageDescription: TO-220, Molded, .400 x .590 x .180in Body, 7 Lead, .050in Pitch, Staggered; RoHS: N; PinCount: 7; CompType: Switcher; Code_JEDEC: TO-220-AB; ComponentLink1Description: Manufacturer URL; ComponentLink1URL: http://www.national.com/; ComponentLink2Description: LM2588 Datasheet; ComponentLink2URL: http://www.national.com/ds/LM/LM2588.pdf; ComponentLink3Description: LM2588 Web Page; ComponentLink3URL: http://www.national.com/pf/LM/LM2588.html; ComponentLink4Description: TA07B Package Page; ComponentLink4URL: http://www.national.com/packaging/folders/ta07b.html
footprint TA07B (TO, Thru-Hole, Vertical, Heatsink Mounted; 7 Bent Staggered Leads; Body 10.2x8.7x4.6mm, Pitch 1.27 mm)
pins: 1 FREQ ADJ/~{ON}/OFF (in), 2 COMP, 3 FB (in), 4 GND (power), 5 SW (power), 6 FREQ SYNC, 7 VIN (power)

## LM2588T-5.0/NOPB
designator U?
SIMPLE SWITCHER® 5A Flyback Regulator with Shutdown, 7-pin TO-220, Pb-Free; PartNumber: LM2588T-5.0/NOPB; Manufacturer: National Semiconductor; PackageTopMarking: NSUZXYTTE#*LM2588T*-5.0 P+; PowerWise: N; High-Reliability: Y; DatasheetVersion: Jul-2005; PackageVersion: revC, Apr-1999; PackageReference: TA07B; PackageDescription: TO-220, Molded, .400 x .590 x .180in Body, 7 Lead, .050in Pitch, Staggered; RoHS: Y; PinCount: 7; CompType: Switcher; Code_JEDEC: TO-220-AB; ComponentLink1Description: Manufacturer URL; ComponentLink1URL: http://www.national.com/; ComponentLink2Description: LM2588 Datasheet; ComponentLink2URL: http://www.national.com/ds/LM/LM2588.pdf; ComponentLink3Description: LM2588 Web Page; ComponentLink3URL: http://www.national.com/pf/LM/LM2588.html; ComponentLink4Description: TA07B Package Page; ComponentLink4URL: http://www.national.com/packaging/folders/ta07b.html
footprint TA07B (TO, Thru-Hole, Vertical, Heatsink Mounted; 7 Bent Staggered Leads; Body 10.2x8.7x4.6mm, Pitch 1.27 mm)
pins: 1 FREQ ADJ/~{ON}/OFF (in), 2 COMP, 3 FB (in), 4 GND (power), 5 SW (power), 6 FREQ SYNC, 7 VIN (power)

## LM2588T-ADJ
designator U?
SIMPLE SWITCHER® 5A Flyback Regulator with Shutdown, 7-pin TO-220; PartNumber: LM2588T-ADJ; Manufacturer: National Semiconductor; PackageTopMarking: NSUZXYTTE#*LM2588T*-ADJ P+; PowerWise: N; High-Reliability: Y; DatasheetVersion: Jul-2005; PackageVersion: revC, Apr-1999; PackageReference: TA07B; PackageDescription: TO-220, Molded, .400 x .590 x .180in Body, 7 Lead, .050in Pitch, Staggered; RoHS: N; PinCount: 7; CompType: Switcher; Code_JEDEC: TO-220-AB; ComponentLink1Description: Manufacturer URL; ComponentLink1URL: http://www.national.com/; ComponentLink2Description: LM2588 Datasheet; ComponentLink2URL: http://www.national.com/ds/LM/LM2588.pdf; ComponentLink3Description: LM2588 Web Page; ComponentLink3URL: http://www.national.com/pf/LM/LM2588.html; ComponentLink4Description: TA07B Package Page; ComponentLink4URL: http://www.national.com/packaging/folders/ta07b.html
footprint TA07B (TO, Thru-Hole, Vertical, Heatsink Mounted; 7 Bent Staggered Leads; Body 10.2x8.7x4.6mm, Pitch 1.27 mm)
pins: 1 FREQ ADJ/~{ON}/OFF (in), 2 COMP, 3 FB (in), 4 GND (power), 5 SW (power), 6 FREQ SYNC, 7 VIN (power)

## LM2588T-ADJ/NOPB
designator U?
SIMPLE SWITCHER® 5A Flyback Regulator with Shutdown, 7-pin TO-220, Pb-Free; PartNumber: LM2588T-ADJ/NOPB; Manufacturer: National Semiconductor; PackageTopMarking: NSUZXYTTE#*LM2588T*-ADJ P+; PowerWise: N; High-Reliability: Y; DatasheetVersion: Jul-2005; PackageVersion: revC, Apr-1999; PackageReference: TA07B; PackageDescription: TO-220, Molded, .400 x .590 x .180in Body, 7 Lead, .050in Pitch, Staggered; RoHS: Y; PinCount: 7; CompType: Switcher; Code_JEDEC: TO-220-AB; ComponentLink1Description: Manufacturer URL; ComponentLink1URL: http://www.national.com/; ComponentLink2Description: LM2588 Datasheet; ComponentLink2URL: http://www.national.com/ds/LM/LM2588.pdf; ComponentLink3Description: LM2588 Web Page; ComponentLink3URL: http://www.national.com/pf/LM/LM2588.html; ComponentLink4Description: TA07B Package Page; ComponentLink4URL: http://www.national.com/packaging/folders/ta07b.html
footprint TA07B (TO, Thru-Hole, Vertical, Heatsink Mounted; 7 Bent Staggered Leads; Body 10.2x8.7x4.6mm, Pitch 1.27 mm)
pins: 1 FREQ ADJ/~{ON}/OFF (in), 2 COMP, 3 FB (in), 4 GND (power), 5 SW (power), 6 FREQ SYNC, 7 VIN (power)

## LM2590HVS-3.3
designator U?
SIMPLE SWITCHER® Power Converter 150 KHz 1A Step-Down Voltage Regulator with Features, 7-pin TO-263; PartNumber: LM2590HVS-3.3; Manufacturer: National Semiconductor; PackageTopMarking: NSUZXYTTE#*LM2590HVS*-3.3 P+; PowerWise: N; High-Reliability: Y; DatasheetVersion: Dec-2001; PackageVersion: revE, Jul-2003; PackageReference: TS7B; PackageDescription: TO-263, Molded, .400 x .390 x .180in Body, 7 Lead, .050in Pitch, Surface Mount; RoHS: N; PinCount: 7; CompType: Switcher; Code_JEDEC: MO-169-AC; ComponentLink1Description: Manufacturer URL; ComponentLink1URL: http://www.national.com/; ComponentLink2Description: LM2590HV Datasheet; ComponentLink2URL: http://www.national.com/ds/LM/LM2590HV.pdf; ComponentLink3Description: LM2590HV Web Page; ComponentLink3URL: http://www.national.com/pf/LM/LM2590HV.html; ComponentLink4Description: TS7B Package Page; ComponentLink4URL: http://www.national.com/packaging/folders/ts7b.html
footprint TS7B_N (D2-PAK, 8-Leads, Body 8.6x10.2mm, Pitch 1.27mm, Lead Span 14.1mm, IPC Medium Density)
footprint TS7B_L (D2-PAK, 8-Leads, Body 8.6x10.2mm, Pitch 1.27mm, Lead Span 14.1mm, IPC High Density)
footprint TS7B_M (D2-PAK, 8-Leads, Body 8.6x10.2mm, Pitch 1.27mm, Lead Span 14.1mm, IPC Low Density)
pins: 1 VIN (power), 2 OUT (power), 3 FLAG (oc), 4 GND (power), 5 DELAY (in), 6 FB (in), 7 ~{SD}/SS (in), 8 TAB (power)

## LM2590HVS-3.3/NOPB
designator U?
SIMPLE SWITCHER® Power Converter 150 KHz 1A Step-Down Voltage Regulator with Features, 7-pin TO-263, Pb-Free; PartNumber: LM2590HVS-3.3/NOPB; Manufacturer: National Semiconductor; PackageTopMarking: NSUZXYTTE#*LM2590HVS*-3.3 P+; PowerWise: N; High-Reliability: Y; DatasheetVersion: Dec-2001; PackageVersion: revE, Jul-2003; PackageReference: TS7B; PackageDescription: TO-263, Molded, .400 x .390 x .180in Body, 7 Lead, .050in Pitch, Surface Mount; RoHS: Y; PinCount: 7; CompType: Switcher; Code_JEDEC: MO-169-AC; ComponentLink1Description: Manufacturer URL; ComponentLink1URL: http://www.national.com/; ComponentLink2Description: LM2590HV Datasheet; ComponentLink2URL: http://www.national.com/ds/LM/LM2590HV.pdf; ComponentLink3Description: LM2590HV Web Page; ComponentLink3URL: http://www.national.com/pf/LM/LM2590HV.html; ComponentLink4Description: TS7B Package Page; ComponentLink4URL: http://www.national.com/packaging/folders/ts7b.html
footprint TS7B_N (D2-PAK, 8-Leads, Body 8.6x10.2mm, Pitch 1.27mm, Lead Span 14.1mm, IPC Medium Density)
footprint TS7B_L (D2-PAK, 8-Leads, Body 8.6x10.2mm, Pitch 1.27mm, Lead Span 14.1mm, IPC High Density)
footprint TS7B_M (D2-PAK, 8-Leads, Body 8.6x10.2mm, Pitch 1.27mm, Lead Span 14.1mm, IPC Low Density)
pins: 1 VIN (power), 2 OUT (power), 3 FLAG (oc), 4 GND (power), 5 DELAY (in), 6 FB (in), 7 ~{SD}/SS (in), 8 TAB (power)

## LM2590HVS-5.0
designator U?
SIMPLE SWITCHER® Power Converter 150 KHz 1A Step-Down Voltage Regulator with Features, 7-pin TO-263; PartNumber: LM2590HVS-5.0; Manufacturer: National Semiconductor; PackageTopMarking: NSUZXYTTE#*LM2590HVS*-5.0 P+; PowerWise: N; High-Reliability: Y; DatasheetVersion: Dec-2001; PackageVersion: revE, Jul-2003; PackageReference: TS7B; PackageDescription: TO-263, Molded, .400 x .390 x .180in Body, 7 Lead, .050in Pitch, Surface Mount; RoHS: N; PinCount: 7; CompType: Switcher; Code_JEDEC: MO-169-AC; ComponentLink1Description: Manufacturer URL; ComponentLink1URL: http://www.national.com/; ComponentLink2Description: LM2590HV Datasheet; ComponentLink2URL: http://www.national.com/ds/LM/LM2590HV.pdf; ComponentLink3Description: LM2590HV Web Page; ComponentLink3URL: http://www.national.com/pf/LM/LM2590HV.html; ComponentLink4Description: TS7B Package Page; ComponentLink4URL: http://www.national.com/packaging/folders/ts7b.html
footprint TS7B_N (D2-PAK, 8-Leads, Body 8.6x10.2mm, Pitch 1.27mm, Lead Span 14.1mm, IPC Medium Density)
footprint TS7B_L (D2-PAK, 8-Leads, Body 8.6x10.2mm, Pitch 1.27mm, Lead Span 14.1mm, IPC High Density)
footprint TS7B_M (D2-PAK, 8-Leads, Body 8.6x10.2mm, Pitch 1.27mm, Lead Span 14.1mm, IPC Low Density)
pins: 1 VIN (power), 2 OUT (power), 3 FLAG (oc), 4 GND (power), 5 DELAY (in), 6 FB (in), 7 ~{SD}/SS (in), 8 TAB (power)

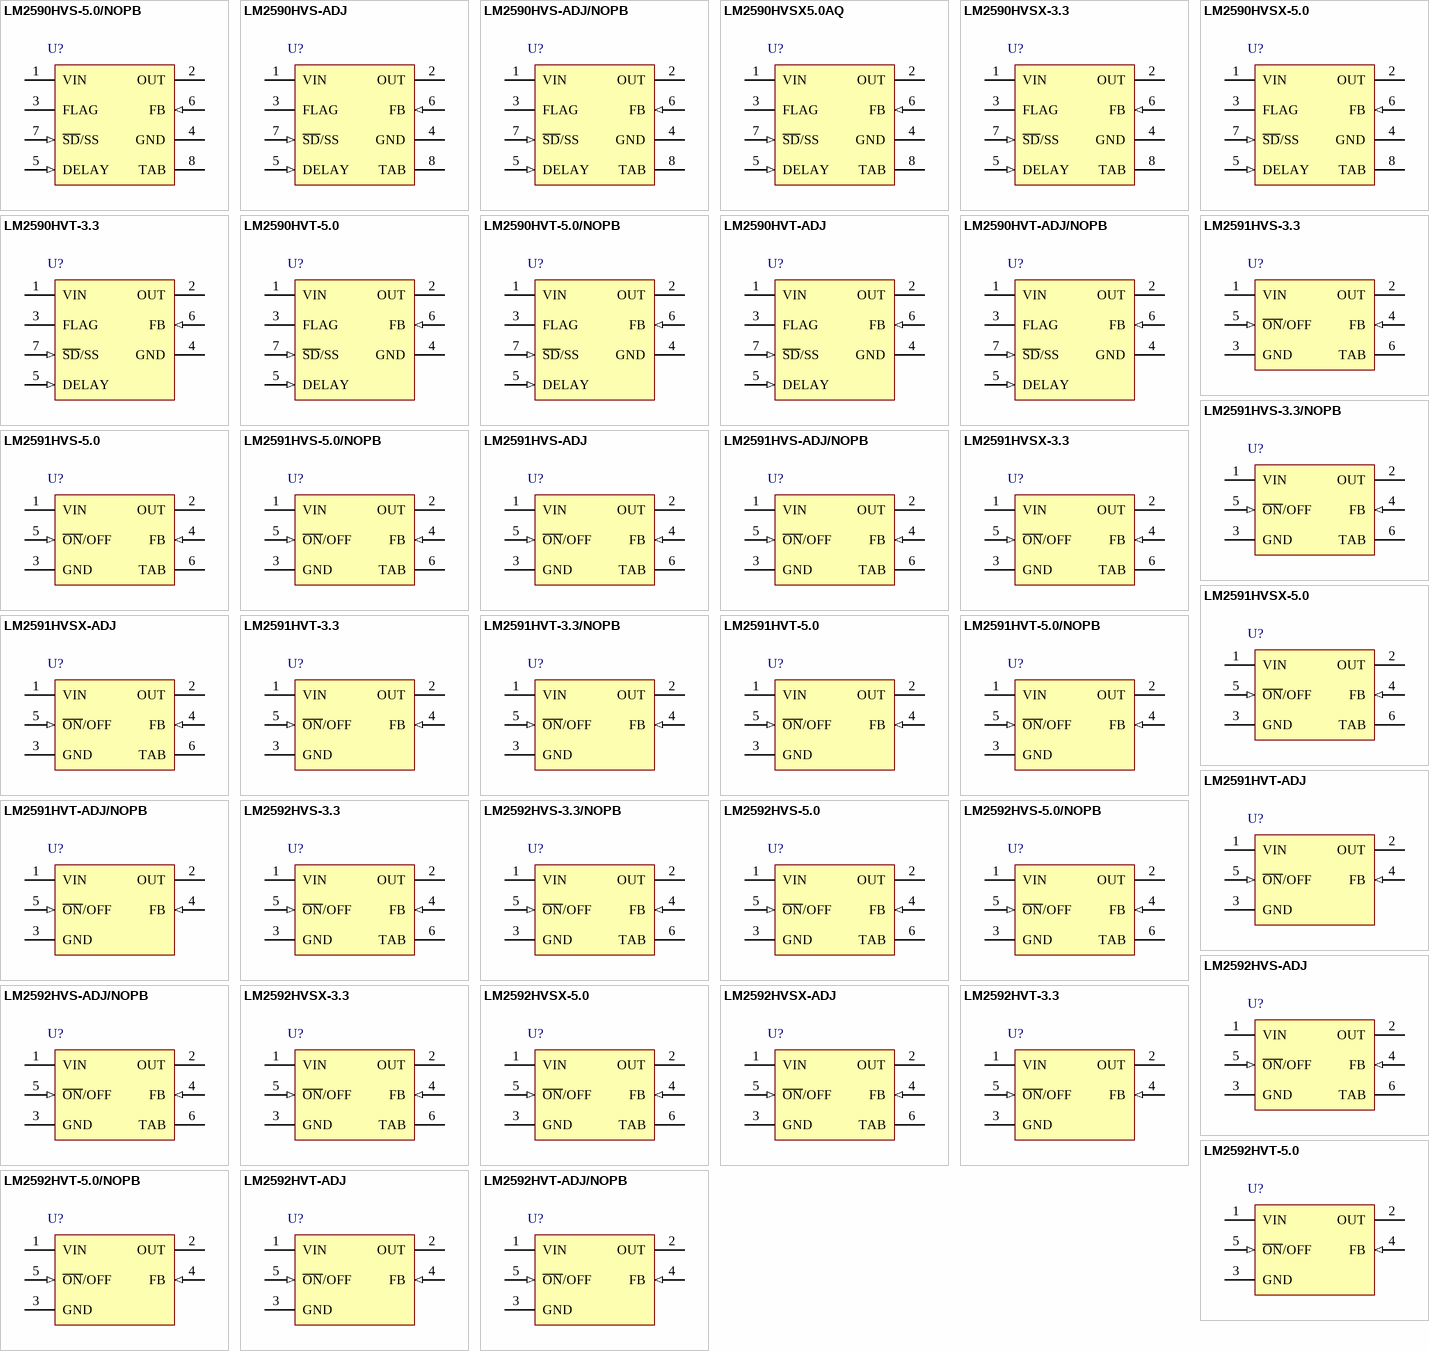
[diagram p8: symbols LM2590HVS-5.0/NOPB to LM2592HVT-ADJ/NOPB]

## LM2590HVS-5.0/NOPB
designator U?
SIMPLE SWITCHER® Power Converter 150 KHz 1A Step-Down Voltage Regulator with Features, 7-pin TO-263, Pb-Free; PartNumber: LM2590HVS-5.0/NOPB; Manufacturer: National Semiconductor; PackageTopMarking: NSUZXYTTE#*LM2590HVS*-5.0 P+; PowerWise: N; High-Reliability: Y; DatasheetVersion: Dec-2001; PackageVersion: revE, Jul-2003; PackageReference: TS7B; PackageDescription: TO-263, Molded, .400 x .390 x .180in Body, 7 Lead, .050in Pitch, Surface Mount; RoHS: Y; PinCount: 7; CompType: Switcher; Code_JEDEC: MO-169-AC; ComponentLink1Description: Manufacturer URL; ComponentLink1URL: http://www.national.com/; ComponentLink2Description: LM2590HV Datasheet; ComponentLink2URL: http://www.national.com/ds/LM/LM2590HV.pdf; ComponentLink3Description: LM2590HV Web Page; ComponentLink3URL: http://www.national.com/pf/LM/LM2590HV.html; ComponentLink4Description: TS7B Package Page; ComponentLink4URL: http://www.national.com/packaging/folders/ts7b.html
footprint TS7B_N (D2-PAK, 8-Leads, Body 8.6x10.2mm, Pitch 1.27mm, Lead Span 14.1mm, IPC Medium Density)
footprint TS7B_L (D2-PAK, 8-Leads, Body 8.6x10.2mm, Pitch 1.27mm, Lead Span 14.1mm, IPC High Density)
footprint TS7B_M (D2-PAK, 8-Leads, Body 8.6x10.2mm, Pitch 1.27mm, Lead Span 14.1mm, IPC Low Density)
pins: 1 VIN (power), 2 OUT (power), 3 FLAG (oc), 4 GND (power), 5 DELAY (in), 6 FB (in), 7 ~{SD}/SS (in), 8 TAB (power)

## LM2590HVS-ADJ
designator U?
SIMPLE SWITCHER® Power Converter 150 KHz 1A Step-Down Voltage Regulator with Features, 7-pin TO-263; PartNumber: LM2590HVS-ADJ; Manufacturer: National Semiconductor; PackageTopMarking: NSUZXYTTE#*LM2590HVS*-ADJ P+; PowerWise: N; High-Reliability: Y; DatasheetVersion: Dec-2001; PackageVersion: revE, Jul-2003; PackageReference: TS7B; PackageDescription: TO-263, Molded, .400 x .390 x .180in Body, 7 Lead, .050in Pitch, Surface Mount; RoHS: N; PinCount: 7; CompType: Switcher; Code_JEDEC: MO-169-AC; ComponentLink1Description: Manufacturer URL; ComponentLink1URL: http://www.national.com/; ComponentLink2Description: LM2590HV Datasheet; ComponentLink2URL: http://www.national.com/ds/LM/LM2590HV.pdf; ComponentLink3Description: LM2590HV Web Page; ComponentLink3URL: http://www.national.com/pf/LM/LM2590HV.html; ComponentLink4Description: TS7B Package Page; ComponentLink4URL: http://www.national.com/packaging/folders/ts7b.html
footprint TS7B_N (D2-PAK, 8-Leads, Body 8.6x10.2mm, Pitch 1.27mm, Lead Span 14.1mm, IPC Medium Density)
footprint TS7B_L (D2-PAK, 8-Leads, Body 8.6x10.2mm, Pitch 1.27mm, Lead Span 14.1mm, IPC High Density)
footprint TS7B_M (D2-PAK, 8-Leads, Body 8.6x10.2mm, Pitch 1.27mm, Lead Span 14.1mm, IPC Low Density)
pins: 1 VIN (power), 2 OUT (power), 3 FLAG (oc), 4 GND (power), 5 DELAY (in), 6 FB (in), 7 ~{SD}/SS (in), 8 TAB (power)

## LM2590HVS-ADJ/NOPB
designator U?
SIMPLE SWITCHER® Power Converter 150 KHz 1A Step-Down Voltage Regulator with Features, 7-pin TO-263, Pb-Free; PartNumber: LM2590HVS-ADJ/NOPB; Manufacturer: National Semiconductor; PackageTopMarking: NSUZXYTTE#*LM2590HVS*-ADJ P+; PowerWise: N; High-Reliability: Y; DatasheetVersion: Dec-2001; PackageVersion: revE, Jul-2003; PackageReference: TS7B; PackageDescription: TO-263, Molded, .400 x .390 x .180in Body, 7 Lead, .050in Pitch, Surface Mount; RoHS: Y; PinCount: 7; CompType: Switcher; Code_JEDEC: MO-169-AC; ComponentLink1Description: Manufacturer URL; ComponentLink1URL: http://www.national.com/; ComponentLink2Description: LM2590HV Datasheet; ComponentLink2URL: http://www.national.com/ds/LM/LM2590HV.pdf; ComponentLink3Description: LM2590HV Web Page; ComponentLink3URL: http://www.national.com/pf/LM/LM2590HV.html; ComponentLink4Description: TS7B Package Page; ComponentLink4URL: http://www.national.com/packaging/folders/ts7b.html
footprint TS7B_N (D2-PAK, 8-Leads, Body 8.6x10.2mm, Pitch 1.27mm, Lead Span 14.1mm, IPC Medium Density)
footprint TS7B_L (D2-PAK, 8-Leads, Body 8.6x10.2mm, Pitch 1.27mm, Lead Span 14.1mm, IPC High Density)
footprint TS7B_M (D2-PAK, 8-Leads, Body 8.6x10.2mm, Pitch 1.27mm, Lead Span 14.1mm, IPC Low Density)
pins: 1 VIN (power), 2 OUT (power), 3 FLAG (oc), 4 GND (power), 5 DELAY (in), 6 FB (in), 7 ~{SD}/SS (in), 8 TAB (power)

## LM2590HVSX5.0AQ
designator U?
SIMPLE SWITCHER® Power Converter 150 KHz 1A Step-Down Voltage Regulator with Features, 7-pin TO-263; PartNumber: LM2590HVSX5.0AQ; Manufacturer: National Semiconductor; PackageTopMarking: NSUZXYTTE#*LM2590HVS*5.0AQ P+; PowerWise: N; High-Reliability: Y; DatasheetVersion: Dec-2001; PackageVersion: revE, Jul-2003; PackageReference: TS7B; PackageDescription: TO-263, Molded, .400 x .390 x .180in Body, 7 Lead, .050in Pitch, Surface Mount; RoHS: N; PinCount: 7; CompType: Switcher; Code_JEDEC: MO-169-AC; ComponentLink1Description: Manufacturer URL; ComponentLink1URL: http://www.national.com/; ComponentLink2Description: LM2590HV Datasheet; ComponentLink2URL: http://www.national.com/ds/LM/LM2590HV-AQ.pdf; ComponentLink3Description: LM2590HV Web Page; ComponentLink3URL: http://www.national.com/pf/LM/LM2590HV.html; ComponentLink4Description: TS7B Package Page; ComponentLink4URL: http://www.national.com/packaging/folders/ts7b.html
footprint TS7B_N (D2-PAK, 8-Leads, Body 8.6x10.2mm, Pitch 1.27mm, Lead Span 14.1mm, IPC Medium Density)
footprint TS7B_L (D2-PAK, 8-Leads, Body 8.6x10.2mm, Pitch 1.27mm, Lead Span 14.1mm, IPC High Density)
footprint TS7B_M (D2-PAK, 8-Leads, Body 8.6x10.2mm, Pitch 1.27mm, Lead Span 14.1mm, IPC Low Density)
pins: 1 VIN (power), 2 OUT (power), 3 FLAG (oc), 4 GND (power), 5 DELAY (in), 6 FB (in), 7 ~{SD}/SS (in), 8 TAB (power)